# Altium schematic symbol library ESD5384NCTBG.Schlib: 1 symbol
Pins are listed as number, name and electrical type; pins without a type are passive.

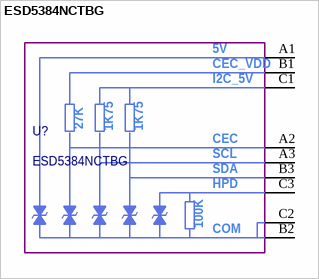
[diagram p0: symbol ESD5384NCTBG]

## ESD5384NCTBG
designator U?
pins: A1 5V, A2 CEC, A3 SCL, B1 CEC_VDD, B2 COM, B3 SDA, C1 I2C_5V, C2 COM, C3 HPD
text: 27K; 1K75; 100K